# Altium footprint library TRACKER.PcbLib: 16 footprints
Each footprint in its own frame and in the unit in brackets; x right, y up, seen from the top. Pads: shape width x height; smd on the part's side, far side on the other; paste and mask are expansions set on the pad; w line width, h text height; cw(c..) or ccw(c..) is an arc to the next point about the centre after c.
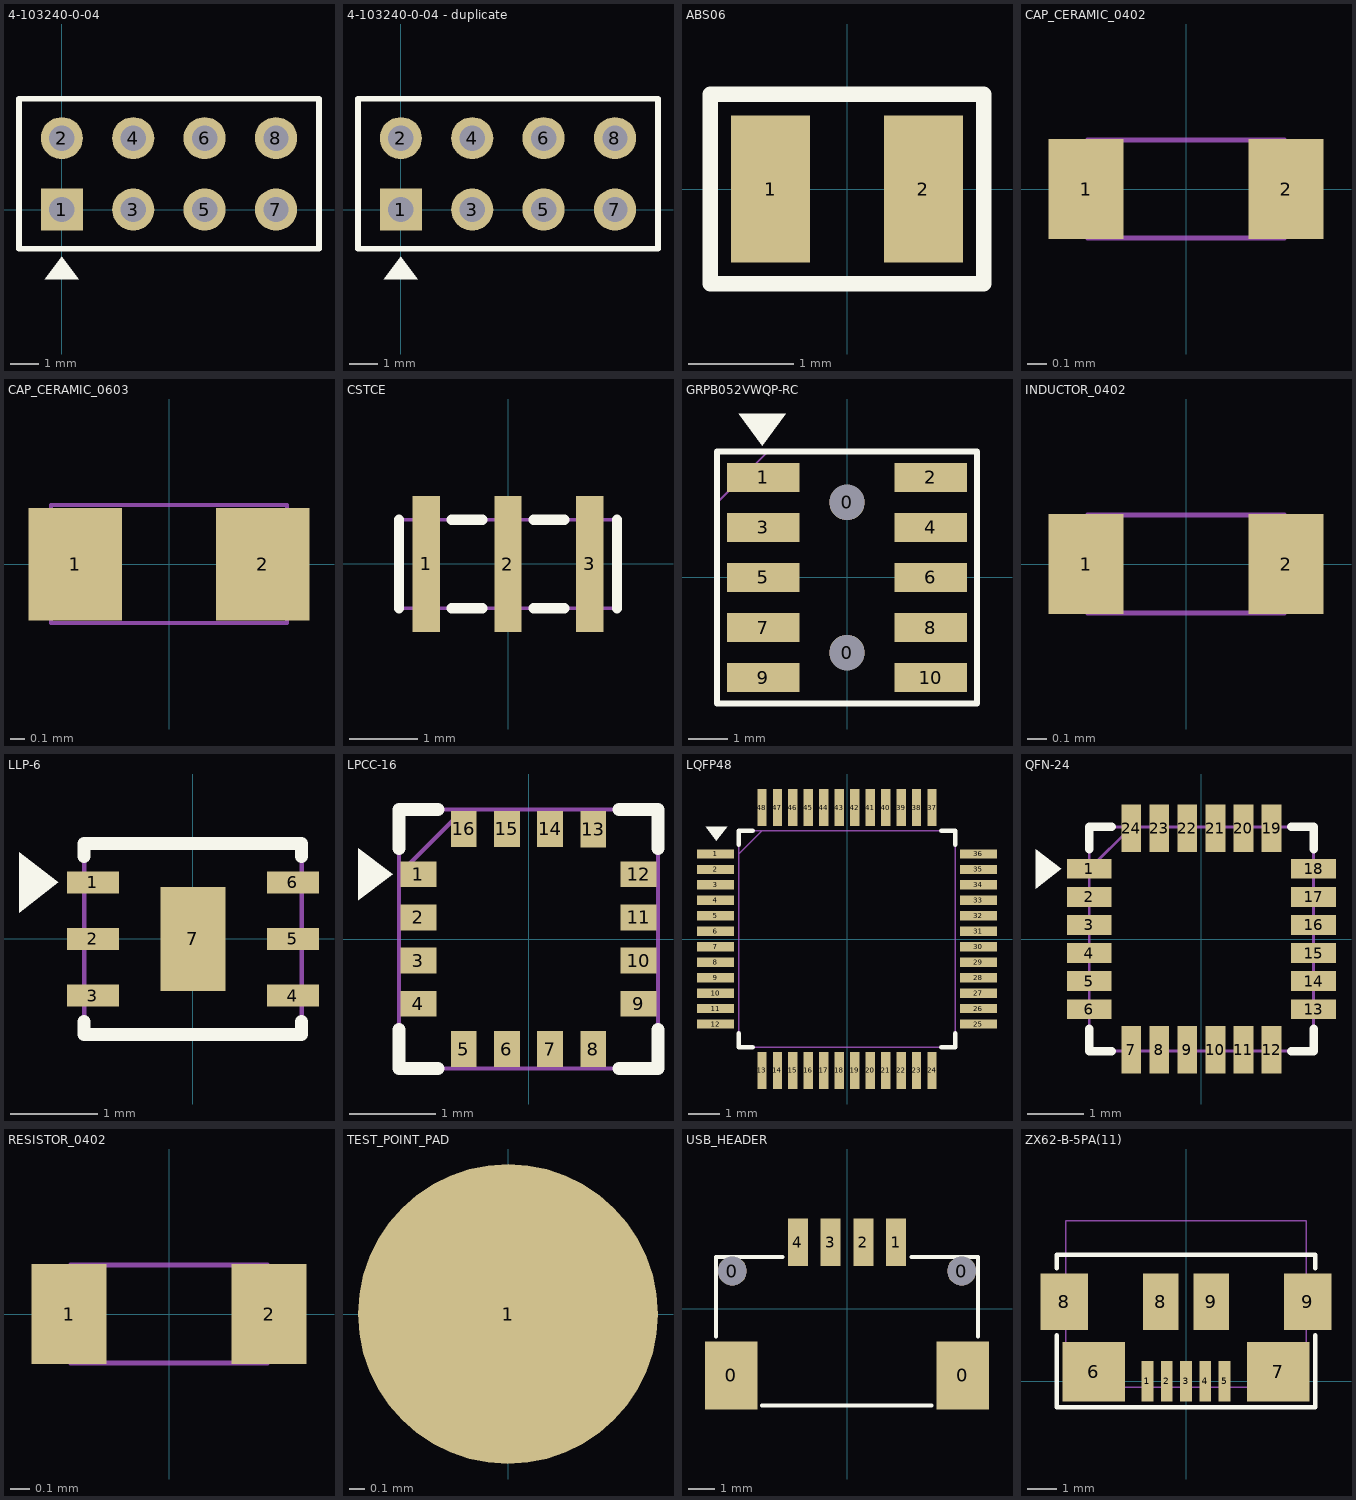
[diagram p0: the footprints below, top view; thin cyan lines are the x and y axes]

## 4-103240-0-04 [mm]
pads (8):
  rect 1.5x1.5 hole 0.9 mask+0.076: 1(0,0)
  round 1.5 hole 0.9 mask+0.076: 2(0,2.54) 3(2.54,0) 4(2.54,2.54) 5(5.08,0) 6(5.08,2.54) 7(7.62,0) 8(7.62,2.54)
Top Overlay:
  region: 0,-1.675 0.6,-2.475 -0.6,-2.475
  lines w0.203: -1.524,-1.4 -1.524,3.937 9.15,3.937 9.15,-1.4 -1.524,-1.4

## 4-103240-0-04 - duplicate [mm]
pads (8):
  rect 1.5x1.5 hole 0.9 mask+0.076: 1(0,0)
  round 1.5 hole 0.9 mask+0.076: 2(0,2.54) 3(2.54,0) 4(2.54,2.54) 5(5.08,0) 6(5.08,2.54) 7(7.62,0) 8(7.62,2.54)
Top Overlay:
  region: 0,-1.675 0.6,-2.475 -0.6,-2.475
  lines w0.203: -1.524,-1.4 -1.524,3.937 9.15,3.937 9.15,-1.4 -1.524,-1.4
3D body: height 8.49, standoff -2.49, extent 6.355,-1.265 8.895,3.815
3D body: height 8.49, standoff -2.49, extent 3.815,-1.265 6.355,3.815
3D body: height 8.49, standoff -2.49, extent 1.275,-1.265 3.815,3.815
3D body: height 8.49, standoff -2.49, extent -1.265,-1.265 1.275,3.815

## ABS06 [mm]
pads (2):
  rect 0.75x1.4 smd: 1(-0.725,0) 2(0.725,0)
Top Overlay:
  lines w0.15: -1.3,-0.9 -1.3,0.9 1.3,0.9 1.3,-0.9 -1.3,-0.9
3D body: height 0.6, standoff 0, extent -1,-0.61 1,0.61

## CAP_CERAMIC_0402 [mil]
pads (2):
  rect 15x20 smd mask+2.5: 1(-20,0) 2(20,0)
Mechanical 1:
  lines w1: -19.68,-9.84 -19.68,9.84 19.68,9.84 19.68,-9.84 -19.68,-9.84
3D body: height 22.05, standoff 0, extent -19.68,-9.84 19.68,9.84

## CAP_CERAMIC_0603 [mil]
pads (2):
  rect 25x30 smd mask+2.5: 1(-25,0) 2(25,0)
Mechanical 1:
  lines w1: -31.5,-15.75 -31.5,15.75 31.5,15.75 31.5,-15.75 -31.5,-15.75
3D body: height 21.65, standoff 0, extent -31.5,-15.75 31.5,15.75

## CSTCE [mm]
pads (3):
  rect 0.4x2 smd mask+0.064: 1(-1.2,0) 2(0,0) 3(1.2,0)
Top Overlay:
  lines w0.15: -1.6,-0.65 -1.6,0.65 ; -0.825,-0.65 -0.375,-0.65 ; -0.825,0.65 -0.375,0.65 ; 0.375,-0.65 0.825,-0.65 ; 0.375,0.65 0.825,0.65 ; 1.6,-0.65 1.6,0.65
Mechanical 1:
  lines w0.05: -1.6,-0.65 -1.6,0.65 1.6,0.65 1.6,-0.65 -1.6,-0.65
3D body: height 0.7, standoff 0, extent -1.6,-0.65 1.6,0.65

## GRPB052VWQP-RC [mm]
pads (12):
  round 0.9 hole 0.9 unplated mask+0.076: 0(0,-1.905) 0(0,1.905)
  rect 1.85x0.74 smd mask+0.064: 1(-2.125,2.54) 2(2.125,2.54) 3(-2.125,1.27) 4(2.125,1.27) 5(-2.125,0) 6(2.125,0) 7(-2.125,-1.27) 8(2.125,-1.27) 9(-2.125,-2.54) 10(2.125,-2.54)
Top Overlay:
  region: -2.15,3.35 -2.75,4.15 -1.55,4.15
  lines w0.15: -3.3,-3.2 -3.3,3.2 3.3,3.2 3.3,-3.2 -3.3,-3.2
Mechanical 1:
  lines w0.05: -3.3,1.9 -2,3.2 ; -3.3,-3.2 3.3,-3.2 3.3,3.2 -3.3,3.2 -3.3,-3.2

## INDUCTOR_0402 [mil]
pads (2):
  rect 15x20 smd mask+2: 1(-20,0) 2(20,0)
Mechanical 1:
  lines w1: -19.68,-9.84 19.68,-9.84 19.68,9.84 -19.68,9.84 -19.68,-9.84
3D body: height 23.62, standoff 0, extent -19.69,-9.85 19.68,9.84

## LLP-6 [mm]
pads (7):
  rect 0.6x0.25 smd mask+0.064: 1(-1.15,0.65) 2(-1.15,0) 3(-1.15,-0.65) 4(1.15,-0.65) 5(1.15,0) 6(1.15,0.65)
  rect 0.75x1.2 smd mask+0.064: 7(0,0)
Top Overlay:
  region: -1.55,0.65 -2,0.3 -2,1
  lines w0.15: -1.25,-0.95 -1.25,-1.1 1.25,-1.1 1.25,-0.95 ; -1.25,0.95 -1.25,1.1 1.25,1.1 1.25,0.95
Mechanical 1:
  lines w0.05: -1.25,1 -1.25,-1.1 1.15,-1.1 1.25,-1 1.25,1.1 -1.15,1.1
3D body: height 0.8, standoff 0, extent -1.25,-1.1 1.25,1.1

## LPCC-16 [mm]
pads (16):
  rect 0.42x0.3 smd paste+0 mask+0.051: 1(-1.275,0.75) 2(-1.275,0.25) 3(-1.275,-0.25) 4(-1.275,-0.75) 9(1.275,-0.75) 10(1.275,-0.25) 11(1.275,0.25) 12(1.275,0.75)
  rect 0.3x0.42 smd paste+0 mask+0.051: 5(-0.75,-1.275) 6(-0.25,-1.275) 7(0.25,-1.275) 8(0.75,-1.275) 13(0.75,1.27) 14(0.25,1.275) 15(-0.25,1.275) 16(-0.75,1.275)
Top Overlay:
  region: -1.575,0.75 -1.975,1.05 -1.975,0.45
  lines w0.15: -1.5,-1.05 -1.5,-1.5 -1.05,-1.5 ; -1.5,1.05 -1.5,1.5 -1.05,1.5 ; 1.05,-1.5 1.5,-1.5 1.5,-1.05 ; 1.05,1.5 1.5,1.5 1.5,1.05
Mechanical 1:
  lines w0.05: -1.5,0.75 -0.75,1.5 ; -1.5,-1.5 1.5,-1.5 1.5,1.5 -1.5,1.5 -1.5,-1.5
3D body: height 1.5, standoff 0, extent -1.5,-1.5 1.5,1.5

## LQFP48 [mm]
pads (48):
  rect 1.2x0.3 smd mask+0.064: 1(-4.25,2.75) 2(-4.25,2.25) 3(-4.25,1.75) 4(-4.25,1.25) 5(-4.25,0.75) 6(-4.25,0.25) 7(-4.25,-0.25) 8(-4.25,-0.75) 9(-4.25,-1.25) 10(-4.25,-1.75) 11(-4.25,-2.25) 12(-4.25,-2.75) 25(4.25,-2.75) 26(4.25,-2.25) 27(4.25,-1.75) 28(4.25,-1.25) 29(4.25,-0.75) 30(4.25,-0.25) 31(4.25,0.25) 32(4.25,0.75) 33(4.25,1.25) 34(4.25,1.75) 35(4.25,2.25) 36(4.25,2.75)
  rect 0.3x1.2 smd mask+0.064: 13(-2.75,-4.25) 14(-2.25,-4.25) 15(-1.75,-4.25) 16(-1.25,-4.25) 17(-0.75,-4.25) 18(-0.25,-4.25) 19(0.25,-4.25) 20(0.75,-4.25) 21(1.25,-4.25) 22(1.75,-4.25) 23(2.25,-4.25) 24(2.75,-4.25) 37(2.75,4.25) 38(2.25,4.25) 39(1.75,4.25) 40(1.25,4.25) 41(0.75,4.25) 42(0.25,4.25) 43(-0.25,4.25) 44(-0.75,4.25) 45(-1.25,4.25) 46(-1.75,4.25) 47(-2.25,4.25) 48(-2.75,4.25)
Top Overlay:
  region: -4.225,3.175 -4.575,3.625 -3.875,3.625
  lines w0.15: -3.5,-3.05 -3.5,-3.5 -3.05,-3.5 ; -3.5,3.05 -3.5,3.5 -3.05,3.5 ; 3.05,-3.5 3.5,-3.5 3.5,-3.05 ; 3.05,3.5 3.5,3.5 3.5,3.05
Mechanical 1:
  lines w0.05: -3.5,2.75 -2.75,3.5 ; -3.5,-3.5 -3.5,3.5 3.5,3.5 3.5,-3.5 -3.5,-3.5
3D body: height 1.5, standoff 0, extent -4.5,-4.5 4.5,4.5

## QFN-24 [mm]
pads (24):
  rect 0.8x0.35 smd mask+0.051: 1(-2,1.25) 2(-2,0.75) 3(-2,0.25) 4(-2,-0.25) 5(-2,-0.75) 6(-2,-1.25) 13(2,-1.25) 14(2,-0.75) 15(2,-0.25) 16(2,0.25) 17(2,0.75) 18(2,1.25)
  rect 0.35x0.85 smd mask+0.051: 7(-1.25,-1.975) 8(-0.75,-1.975) 9(-0.25,-1.975) 10(0.25,-1.975) 11(0.75,-1.975) 12(1.25,-1.975) 19(1.25,1.975) 20(0.75,1.975) 21(0.25,1.975) 22(-0.25,1.975) 23(-0.75,1.975) 24(-1.25,1.975)
Top Overlay:
  region: -2.5,1.25 -2.95,0.9 -2.95,1.6
  lines w0.15: -2,-1.6 -2,-2 -1.6,-2 ; -2,1.6 -2,2 -1.6,2 ; 1.6,-2 2,-2 2,-1.6 ; 1.6,2 2,2 2,1.6
Mechanical 1:
  lines w0.05: -2,1.25 -1.25,2 ; -2,-2 -2,2 2,2 2,-2 -2,-2
3D body: height 0.9, standoff 0, extent -2,-2 2,2

## RESISTOR_0402 [mil]
pads (2):
  rect 15x20 smd mask+2.5: 1(-20,0) 2(20,0)
Mechanical 1:
  lines w1: -19.68,-9.84 -19.68,9.84 19.68,9.84 19.68,-9.84 -19.68,-9.84
3D body: height 14.96, standoff 0, extent -19.68,-9.84 19.68,9.84

## TEST_POINT_PAD [mm]
pads (1):
  round 2 smd mask+0.064: 1(0,0)

## USB_HEADER [mm]
pads (8):
  rect 2x2.6 smd mask+0.064: 0(-4.42,-2.54) 0(4.42,-2.54)
  round 1.1 hole 1.1 unplated mask+0.064: 0(-4.375,1.44) 0(4.375,1.44)
  rect 0.762x1.803 smd mask+0.064: 1(1.875,2.54) 2(0.625,2.54) 3(-0.625,2.54) 4(-1.875,2.54)
Top Overlay:
  lines w0.15: -5,-1.05 -5,1.98 -2.45,1.98 ; -3.24,-3.68 3.22,-3.68 ; 2.45,1.98 5,1.98 5,-1.05

## ZX62-B-5PA(11) [mm]
pads (11):
  rect 0.4x1.35 smd mask+0.064: 1(-1.3,0) 2(-0.65,0) 3(0,0) 4(0.65,0) 5(1.3,0)
  rect 2.1x2 smd mask+0.064: 6(-3.1,0.325) 7(3.1,0.325)
  rect 1.6x1.9 smd mask+0.064: 8(-4.1,2.675) 9(4.1,2.675)
  rect 1.2x1.9 smd mask+0.064: 8(-0.85,2.675) 9(0.85,2.675)
Top Overlay:
  lines w0.15: -4.35,1.55 -4.35,-0.875 4.35,-0.875 4.35,1.55 ; -4.35,3.8 -4.35,4.25 4.35,4.25 4.35,3.8
Mechanical 1:
  lines w0.05: -4.04,-0.21 -4.04,5.4 4.04,5.4 4.04,-0.21 -4.04,-0.21
3D body: height 2.79, standoff -0.16, extent -4.037,-0.2 4.037,5.4